# Altium schematic symbol library SPIMEM.Schlib: 1 symbol
Pins are listed as number, name and electrical type; pins without a type are passive.

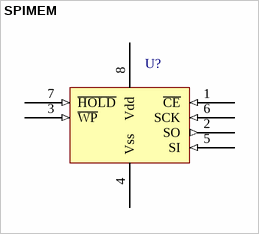
[diagram p0: symbol SPIMEM]

## SPIMEM
designator U?
IC, Serial Flash Memory
signal-integrity model SPI Memory
pins: 1 ~{CE} (in), 2 SO (out), 3 ~{WP} (in), 4 Vss (power), 5 SI (in), 6 SCK (in), 7 ~{HOLD} (in), 8 Vdd (power)